# EAGLE library part DIRECTFET_L8 (library sc_usercreated)
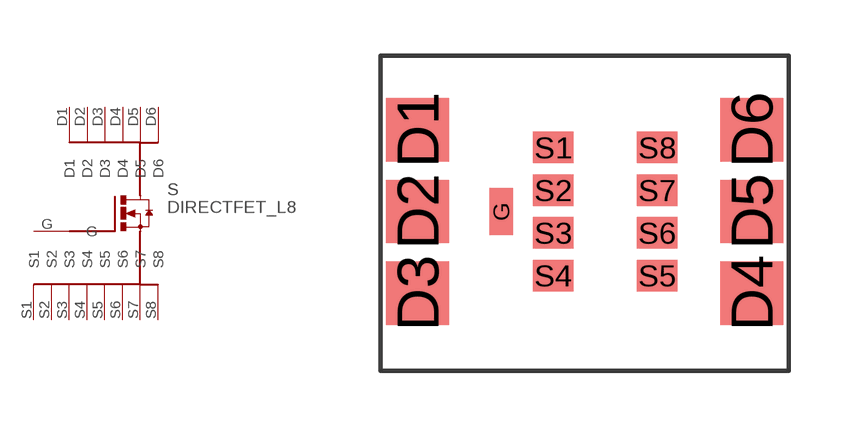
[diagram p14: symbol with the pads of DIRECTFET_L8; footprint DIRECTFET_L8]

Designator prefix S

## DIRECTFET_L8  [DIRECTFET_L8]
D1  D1
D2  D2
D3  D3
D4  D4
D5  D5
D6  D6
G  G
S1  S1
S2  S2
S3  S3
S4  S4
S5  S5
S6  S6
S7  S7
S8  S8

## Footprint DIRECTFET_L8 (pad centres in mm)
smd 1.7 x 1.7: D1 0,0; D2 0,-2.2; D3 0,-4.4; D4 9,-4.4; D5 9,-2.2; D6 9,0
smd 0.635 x 1.27: G 2.25,-2.2
smd 1.1 x 0.85: S1 3.65,-0.475; S2 3.65,-1.625; S3 3.65,-2.775; S4 3.65,-3.925; S5 6.45,-3.925; S6 6.45,-2.775; S7 6.45,-1.625; S8 6.45,-0.475